# Altium integrated library Altium_IC.IntLib: 58 symbols (part 2 of 2)
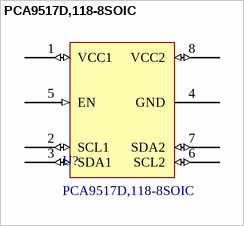
[diagram p22: symbol PCA9517D,118-8SOIC]

## PCA9517D,118-8SOIC
designator U?
IC REDRIVER I2C 1CH 400KHZ 8SOIC; Manufacturer: NXP USA Inc.; Active Read Current - Max: 5 mA; Number of Channels: 2; Capacitance - Input: 6 pF; Supply Voltage - Max: 5.5 V; Supply Voltage - Min: 2.7 V; Applications: I2C; Data Rate (Max): 400 kHz; Supplier 1 URL: https://www.mouser.com/ProductDetail/NXP-Semiconductors/PCA9517D118?qs=LOCUfHb8d9vRhua6vNQMbg%3D%3D; Supplier 2 URL: https://www.digikey.com/en/products/detail/nxp-usa-inc/PCA9517D-118/789917; Supplier 3 URL: N/A; Value: PCA9517D,118-8SOIC; Supplier 1: Mouser; Supplier 1 Part Number: 771-PCA9517D-T; Supplier 2: Digi-Key; Supplier 2 Part Number: 568-1828-2-ND; Supplier 3: thegioiic; Supplier 3 Part Number: N/A; Manufacturer Part Number: PCA9517D,118; Mount: SMD/SMT; Operating Temperature Max: + 85 C; Operating Temperature Min: - 40 C; Package / Case: 8SOIC; Packaging: Tape and Reel; ComponentLink1Description: Datasheet; ComponentLink1URL: https://www.nxp.com/docs/en/data-sheet/PCA9517.pdf
footprint PCA9517D,118-8SOIC (SOIC, 8-Leads, Body 4.90x3.90mm, Pitch 1.27mm, IPC Medium Density)
pins: 1 VCC1 (io), 2 SCL1 (io), 3 SDA1 (io), 4 GND (power), 5 EN (in), 6 SCL2 (io), 7 SDA2 (io), 8 VCC2 (io)


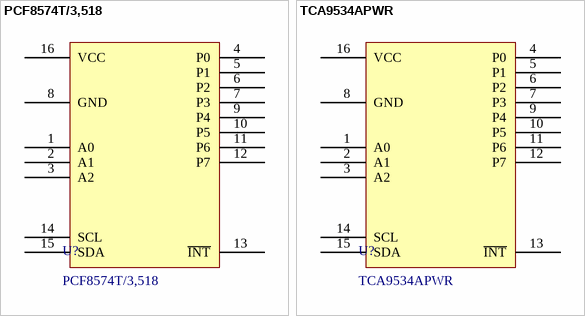
[diagram p14: symbols PCF8574T/3,518 to TCA9534APWR]

## PCF8574T/3,518
designator U?
Interface - I/O Expanders I/O EXPANDER I2C; Manufacturer: NXP; Supply Voltage - Max: 6 V; Supply Voltage - Min: 2.5 V; Configuration Registers: No; Interface Type: I2C, Serial; Interrupt Output: With Interrupt; Maximum Clock Frequency: 100 kHz; Number of I/Os: 8 I/O; ComponentLink1Description: Datasheet; ComponentLink1URL: https://www.mouser.vn/datasheet/2/302/PCF8574_PCF8574A-3139141.pdf; LCSC Part #: C7605; Manufacturer Part Number: PCF8574T/3,518; Mount: SMD/SMT; Operating Temperature Max: + 85 C; Operating Temperature Min: - 40 C; Package / Case: SOIC-16; Packaging: Tape and Reel; Supplier 1: Mouser; Supplier 1 Part Number: 771-PCF8574TD-T; Supplier 1 URL: https://www.mouser.vn/ProductDetail/NXP-Semiconductors/PCF8574T-3518?qs=LOCUfHb8d9srwcgHHpXqQw%3D%3D; Supplier 2: Digi-Key; Supplier 2 Part Number: N/A; Supplier 2 URL: N/A; Supplier 3: thegioiic; Supplier 3 Part Number: N/A; Supplier 3 URL: N/A; Value: PCF8574T/3,518
footprint PCF8574T/3,518 (SOIC, 16-Leads, Body 10.30x7.50mm, Pitch 1.27mm, IPC Medium Density)
pins: 1 A0, 2 A1, 3 A2, 4 P0, 5 P1, 6 P2, 7 P3, 8 GND, 9 P4, 10 P5, 11 P6, 12 P7, 13 ~{INT}, 14 SCL, 15 SDA, 16 VCC

## TCA9534APWR
designator U?
Interface - I/O Expanders Remote 8B I2C and Low-Pwr I/O Expander; Manufacturer: Texas Instruments; Supply Voltage - Max: 5.5 V; Supply Voltage - Min: 1.65 V; Configuration Registers: Yes; Interface Type: I2C, Serial, SMBus; Interrupt Output: With Interrupt; Maximum Clock Frequency: 400 kHz; Number of I/Os: 8 I/O; ComponentLink1Description: Datasheet; ComponentLink1URL: https://www.ti.com/general/docs/suppproductinfo.tsp?distId=26&gotoUrl=https://www.ti.com/lit/gpn/tca9534a; LCSC Part #: C206010; Manufacturer Part Number: TCA9534APWR; Mount: SMD/SMT; Operating Temperature Max: + 85 C; Operating Temperature Min: - 40 C; Package / Case: TSSOP-16; Packaging: Tape and Reel; Supplier 1: Mouser; Supplier 1 Part Number: 595-TCA9534APWR; Supplier 1 URL: https://www.mouser.vn/ProductDetail/Texas-Instruments/TCA9534APWR?qs=asCBFxFfL1RkU8XbvZBOXg%3D%3D; Supplier 2: Digi-Key; Supplier 2 Part Number: N/A; Supplier 2 URL: N/A; Supplier 3: thegioiic; Supplier 3 Part Number: N/A; Supplier 3 URL: N/A; Value: TCA9534APWR
footprint TCA9534APWR (TSOP, 16-Leads, Body 5.00x4.40mm, Pitch 0.65mm, IPC Medium Density)
pins: 1 A0, 2 A1, 3 A2, 4 P0, 5 P1, 6 P2, 7 P3, 8 GND, 9 P4, 10 P5, 11 P6, 12 P7, 13 ~{INT}, 14 SCL, 15 SDA, 16 VCC


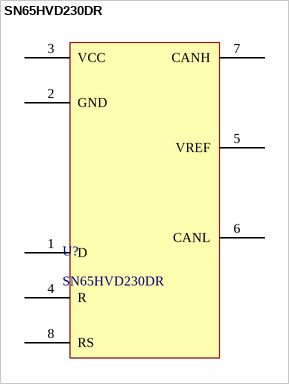
[diagram p15: symbol SN65HVD230DR]

## SN65HVD230DR
designator U?
CAN Interface IC STANDBY MODE; Manufacturer: Texas Instruments; Active Read Current - Max: Active; Data Rate: 1 Mb/s; Number of Drivers: 1; Supply Voltage - Max: 3.6 V; Supply Voltage - Min: 3.1 V; Supplier 1 URL: https://www.mouser.com/ProductDetail/Texas-Instruments/SN65HVD230DR?qs=QViXGNcIEAtifeQR3pYVUQ%3D%3D; Supplier 2 URL: https://www.digikey.com/en/products/detail/texas-instruments/SN65HVD230DR/404367; Supplier 3 URL: https://www.thegioiic.com/sn65hvd230dr-can-transceiver-8-soic; Value: SN65HVD230DR; Number of Receivers: 1; Supplier 1: Mouser; Supplier 1 Part Number: 595-SN65HVD230DR; Supplier 2: Digi-Key; Supplier 2 Part Number: 296-11654-2-ND; Supplier 3: thegioiic; Supplier 3 Part Number: SN65HVD230DR; Manufacturer Part Number: SN65HVD230DR; Mount: SMD/SMT; Operating Temperature Max: + 85 C; Operating Temperature Min: - 40 C; Package / Case: SOIC-8; ComponentLink1Description: Datasheet; ComponentLink1URL: https://www.ti.com/general/docs/suppproductinfo.tsp?distId=26&gotoUrl=https://www.ti.com/lit/gpn/sn65hvd230; Packaging: Tape and Reel
footprint SN65HVD230 (SOIC, 8-Leads, Body 4.91x3.85mm, Pitch 1.27mm, IPC Medium Density)
pins: 1 D, 2 GND, 3 VCC, 4 R, 5 VREF, 6 CANL, 7 CANH, 8 RS


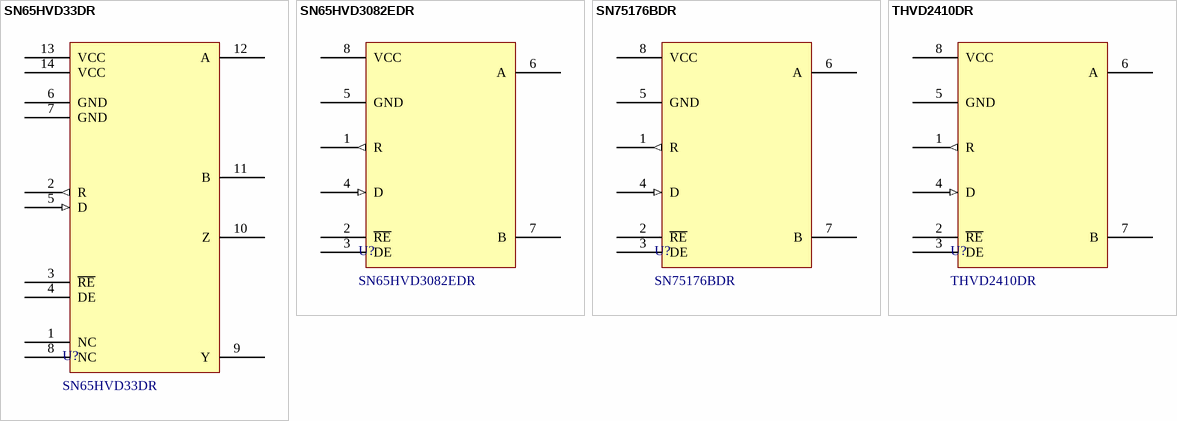
[diagram p16: symbols SN65HVD33DR to THVD2410DR]

## SN65HVD33DR
designator U?
Transceiver 23Mbps SOIC-14 RS-485 / RS-422 ICs ROHS; Manufacturer: Texas Instruments; Active Read Current - Max: Active; Data Rate: 26 Mb/s; Duplex: Full Duplex; Number of Drivers: 1; Operating Supply Current: 2 mA; Supply Voltage - Max: 3.6 V; Supply Voltage - Min: 3 V; Supplier 1 URL: https://www.mouser.com/ProductDetail/Texas-Instruments/SN65HVD33DR?qs=QViXGNcIEAuCd5VF4NkqaQ%3D%3D; Supplier 2 URL: https://www.digikey.com/en/products/detail/texas-instruments/sn65hvd1793dr/2047560; Supplier 3 URL: N/A; Value: SN65HVD33DR; Number of Receivers: 1; Manufacturer Part Number: SN65HVD33DR; Packaging: Tape and Reel; Supplier 1: Mouser; Supplier 1 Part Number: 595-SN65HVD33DR; Supplier 2: Digi-Key; Supplier 2 Part Number: 296-SN65HVD1793DRTR-ND; Supplier 3: thegioiic; Supplier 3 Part Number: N/A; Mount: SMD/SMT; Operating Temperature Max: + 85 C; Operating Temperature Min: - 40 C; Package / Case: SOIC-14; ComponentLink1Description: Datasheet; ComponentLink1URL: https://lcsc.com/datasheet/lcsc_datasheet_2410010301_TI-SN65HVD33DR_C114985.pdf; LCSC Part #: C114985
footprint SN65HVD33DR (SOIC, 14-Leads, Body 8.65x3.90mm, Pitch 1.27mm, IPC Medium Density)
pins: 1 NC, 2 R (out), 3 ~{RE}, 4 DE, 5 D (in), 6 GND, 7 GND, 8 NC, 9 Y, 10 Z, 11 B, 12 A, 13 VCC, 14 VCC

## SN65HVD3082EDR
designator U?
RS-485 Interface IC Low-Power RS-485 Transceiver; Manufacturer: Texas Instruments; Active Read Current - Max: Active; Data Rate: 200 kb/s; Duplex: Half Duplex; Number of Drivers: 1; Operating Supply Current: 0.3 mA; Supply Voltage - Max: 5.5 V; Supply Voltage - Min: 4.5 V; Supplier 1 URL: https://www.mouser.com/ProductDetail/Texas-Instruments/SN65HVD3082EDR?qs=QViXGNcIEAt4eVFlsrGcgQ%3D%3D; Supplier 2 URL: N/A; Supplier 3 URL: N/A; Value: SN65HVD3082EDR; Number of Receivers: 1; Manufacturer Part Number: SN65HVD3082EDR; Packaging: Tape and Reel; Supplier 1: Mouser; Supplier 1 Part Number: 595-SN65HVD3082EDR; Supplier 2: Digi-Key; Supplier 2 Part Number: N/A; Supplier 3: thegioiic; Supplier 3 Part Number: N/A; Mount: SMD/SMT; Operating Temperature Max: + 85 C; Operating Temperature Min: - 40 C; Package / Case: SOIC-8; ComponentLink1Description: Datasheet; ComponentLink1URL: https://www.ti.com/lit/ds/symlink/sn65hvd3082e.pdf?ts=1733221873211&ref_url=https%253A%252F%252Fwww.ti.com%252Fproduct%252FSN65HVD3082E%253Fqgpn%253Dsn65hvd3082e; LCSC Part #: C6912
footprint SN75176BDR (SOIC, 8-Leads, Body 4.90x3.90mm, Pitch 1.27mm, IPC Medium Density)
pins: 1 R (out), 2 ~{RE}, 3 DE, 4 D (in), 5 GND, 6 A, 7 B, 8 VCC

## SN75176BDR
designator U?
RS-422/RS-485 Interface IC Differential Bus; Manufacturer: Texas Instruments; Active Read Current - Max: Active; Data Rate: 10 Mb/s; Duplex: Half Duplex; Number of Drivers: 1; Operating Supply Current: 70 mA; Supply Voltage - Max: 5.25 V; Supply Voltage - Min: 4.75 V; Supplier 1 URL: https://www.mouser.com/ProductDetail/Texas-Instruments/SN75176BDR?qs=sbcp%2F4gpy09LI1PRfuQQ%252BA%3D%3D; Supplier 2 URL: N/A; Supplier 3 URL: N/A; Value: SN75176BDR; Number of Receivers: 1; Manufacturer Part Number: SN75176BDR; Packaging: Tape and Reel; Supplier 1: Mouser; Supplier 1 Part Number: 595-SN75176BDR; Supplier 2: Digi-Key; Supplier 2 Part Number: N/A; Supplier 3: thegioiic; Supplier 3 Part Number: N/A; Mount: SMD/SMT; Operating Temperature Max: + 85 C; Operating Temperature Min: - 40 C; Package / Case: SOIC-8; ComponentLink1Description: Datasheet; ComponentLink1URL: https://www.ti.com/general/docs/suppproductinfo.tsp?distId=26&gotoUrl=https://www.ti.com/lit/gpn/sn75176b; LCSC Part #: C7063
footprint SN75176BDR (SOIC, 8-Leads, Body 4.90x3.90mm, Pitch 1.27mm, IPC Medium Density)
pins: 1 R (out), 2 ~{RE}, 3 DE, 4 D (in), 5 GND, 6 A, 7 B, 8 VCC

## THVD2410DR
designator U?
RS-485 Interface IC +/-70-V fault-protected 3.3-V to 5-V RS-485 transceiver with IEC ESD 8-SOIC -40 to 125; Manufacturer: Texas Instruments; Active Read Current - Max: Active; Data Rate: 500 kb/s; Duplex: Half Duplex; Number of Drivers: 1; Operating Supply Current: 3.5 mA; Supply Voltage - Max: 5.5 V; Supply Voltage - Min: 3 V; Supplier 1 URL: https://www.mouser.com/ProductDetail/Texas-Instruments/THVD2410DR?qs=sGAEpiMZZMutXGli8Ay4kAoIdUySgvbHWvY8ceVHoHw%3D; Supplier 2 URL: N/A; Supplier 3 URL: N/A; Value: THVD2410DR; Number of Receivers: 1; Manufacturer Part Number: THVD2410DR; Packaging: Tape and Reel; Supplier 1: Mouser; Supplier 1 Part Number: 595-THVD2410DR; Supplier 2: Digi-Key; Supplier 2 Part Number: N/A; Supplier 3: thegioiic; Supplier 3 Part Number: N/A; Mount: SMD/SMT; Operating Temperature Max: + 125 C; Operating Temperature Min: - 40 C; Package / Case: SOIC-8; ComponentLink1Description: Datasheet; ComponentLink1URL: https://www.ti.com/lit/ds/symlink/thvd2410.pdf?ts=1733287083739&ref_url=https%253A%252F%252Fwww.mouser.com%252F; LCSC Part #: C1849398
footprint SN75176BDR (SOIC, 8-Leads, Body 4.90x3.90mm, Pitch 1.27mm, IPC Medium Density)
pins: 1 R (out), 2 ~{RE}, 3 DE, 4 D (in), 5 GND, 6 A, 7 B, 8 VCC


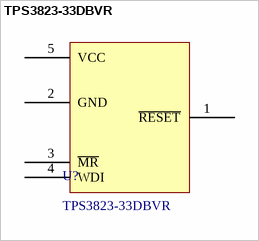
[diagram p17: symbol TPS3823-33DBVR]

## TPS3823-33DBVR
designator U?
Supervisory Circuits 2.93V Monitor; Manufacturer: Texas Instruments; Supply Voltage - Max: 5.5 V; Supply Voltage - Min: 1.1 V; Accuracy: 2.4%; Battery Backup Switching: No Backup; Chip Enable Signals: No Chip Enable; Number of Inputs Monitored: 1 Input; Operating Supply Current: 15 uA; Output Current: 10 mA; Output Type: Active Low, Push-Pull; Overvoltage Threshold: 3 V; Pd - Power Dissipation: 437 mW; Power Fail Detection: No; Reset Delay Time: 200 ms; Watchdog Timers: Watchdog; ComponentLink1Description: Datasheet; ComponentLink1URL: https://www.ti.com/lit/gpn/tps3823; LCSC Part #: C7719; Manufacturer Part Number: TPS3823-33DBVR; Mount: SMD/SMT; Operating Temperature Max: + 85 C; Operating Temperature Min: - 40 C; Package / Case: SOT-23-5; Packaging: Tape and Reel; Supplier 1: Mouser; Supplier 1 Part Number: 595-TPS3823-33DBVR; Supplier 1 URL: https://www.mouser.com/ProductDetail/Texas-Instruments/TPS3823-33DBVR?qs=mTHRaKC2c7OFNY0AQKcsRQ%3D%3D; Supplier 2: Digi-Key; Supplier 2 Part Number: N/A; Supplier 2 URL: N/A; Supplier 3: thegioiic; Supplier 3 Part Number: N/A; Supplier 3 URL: N/A; Value: TPS3823-33DBVR; Manual Reset: Manual Reset; Threshold Voltage: 2.93 V; Undervoltage Threshold: 2.93 V
footprint TPS382x-SOT-23-5 (SOT23, 5-Leads, Body 2.90x2.80mm, Pitch 0.95mm, IPC Medium Density)
pins: 1 ~{RESET}, 2 GND, 3 ~{MR}, 4 WDI, 5 VCC


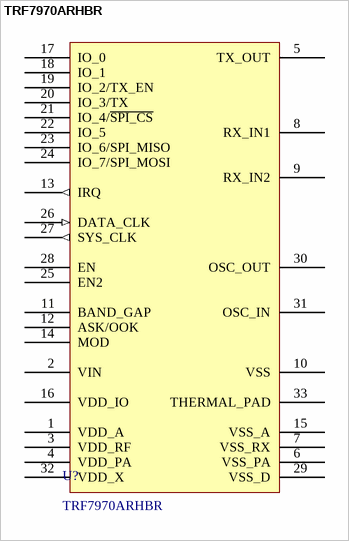
[diagram p18: symbol TRF7970ARHBR]

## TRF7970ARHBR
designator U?
FeliCa,ISO 14443A,ISO 14443B,ISO 15693,ISO 18000-3,ISO 21481,MIFARE,NFC SPI VQFN-32-EP(5x5) RFID, RF Access, Monitoring ICs RoHS; Manufacturer: Texas Instruments; Interface Type: Parrallel, UART, SPI; Operating Frequency: 13.56 MHz; Supply Voltage - Max: 5.5V; Supply Voltage - Min: 2.7 V; ComponentLink1Description: Datasheet; ComponentLink1URL: https://www.ti.com/lit/ds/symlink/trf7970a.pdf?ts=1762763014279&ref_url=https%253A%252F%252Fwww.ti.com%252Fproduct%252FTRF7970A; LCSC Part #: C117004; Manufacturer Part Number: TRF7970ARHBR; Mount: SMD/SMT; Operating Temperature Max: + 110 C; Operating Temperature Min: - 40 C; Package / Case: VQFN-32; Packaging: Tape and Reel; Supplier 1: Mouser; Supplier 1 Part Number: 595-TRF7970ARHBR; Supplier 1 URL: https://www.mouser.vn/ProductDetail/Texas-Instruments/TRF7970ARHBR?qs=4dGAZp5OGt8Af9zmAaD4OQ%3D%3D; Supplier 2: Digi-Key; Supplier 2 Part Number: 296-29355-2-ND; Supplier 2 URL: https://www.digikey.com/en/products/detail/texas-instruments/trf7970arhbr/2728129; Supplier 3: thegioiic; Supplier 3 Part Number: N/A; Supplier 3 URL: N/A; Type: NFC/RFID Tags & Transponders; Value: TRF7970ARHBR
footprint TRF7970ARHBR (QFN, 32-Leads, Body 5.00x5.00mm, Pitch 0.50mm, Thermal Pad 3.50x3.50mm, IPC Medium Density)
pins: 1 VDD_A, 2 VIN, 3 VDD_RF, 4 VDD_PA, 5 TX_OUT, 6 VSS_PA, 7 VSS_RX, 8 RX_IN1, 9 RX_IN2, 10 VSS, 11 BAND_GAP, 12 ASK/OOK, 13 IRQ (out), 14 MOD, 15 VSS_A, 16 VDD_IO, 17 IO_0, 18 IO_1, 19 IO_2/TX_EN, 20 IO_3/TX, 21 IO_4/~{SPI_CS}, 22 IO_5, 23 IO_6/SPI_MISO, 24 IO_7/SPI_MOSI, 25 EN2, 26 DATA_CLK (in), 27 SYS_CLK (out), 28 EN, 29 VSS_D, 30 OSC_OUT, 31 OSC_IN, 32 VDD_X, 33 THERMAL_PAD


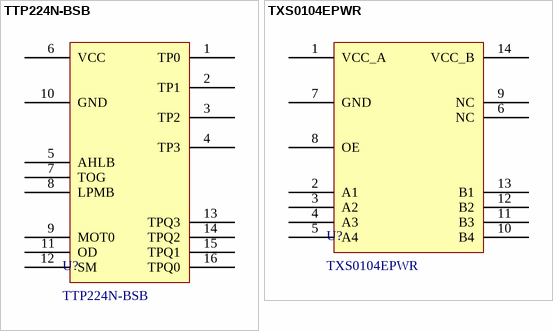
[diagram p19: symbols TTP224N-BSB to TXS0104EPWR]

## TTP224N-BSB
designator U?
4 KEY TOUCH PAD DETECTOR IC; Manufacturer: TONTEK; Active Read Current - Max: Active; Supply Voltage - Max: 5.5 V; Supply Voltage - Min: 2.7 V; Supplier 1: Mouser; Supplier 1 Part Number: N/A; Supplier 1 URL: N/A; Supplier 2: Digi-Key; Supplier 2 Part Number: N/A; Supplier 2 URL: N/A; Supplier 3: thegioiic; Supplier 3 Part Number: TTP224N-BSB; Supplier 3 URL: https://www.thegioiic.com/ttp224n-bsb; Value: TTP224N-BSB; Manufacturer Part Number: TTP224N-BSB; Mount: SMD/SMT; Operating Temperature Max: + 85 C; Operating Temperature Min: - 40 C; Packaging: Tape and Reel; ComponentLink1Description: Datasheet; ComponentLink1URL: N/A
footprint TouchSensorIC_16Pin (SOP, 16-Leads, Body 4.90x3.90mm, Pitch 0.64mm, IPC Medium Density)
pins: 1 TP0, 2 TP1, 3 TP2, 4 TP3, 5 AHLB, 6 VCC, 7 TOG, 8 LPMB, 9 MOT0, 10 GND, 11 OD, 12 SM, 13 TPQ3, 14 TPQ2, 15 TPQ1, 16 TPQ0

## TXS0104EPWR
designator U?
Translation - Voltage Levels 4B Bidrctnl Vltg Lvl Trnsltr Opn Dran App; Manufacturer: Texas Instruments; Data Rate: 50 Mb/s; High Level Output Current: 24 mA; Propagation Delay Time: 260 ns; Supply Voltage - Max: 5.5 V; Supply Voltage - Min: 1.65 V; Active Read Current - Max: Active; Low Level Output Current: 24 mA; Manufacturer Part Number: TXS0104EPWR; Mount: SMD/SMT; Operating Temperature Max: + 85 C; Operating Temperature Min: - 40 C; Package / Case: TSSOP-14; Packaging: Tape and Reel; Supplier 1: Mouser; Supplier 1 Part Number: 595-TXS0104EPWR; Supplier 1 URL: https://www.mouser.vn/ProductDetail/Texas-Instruments/TXS0104EPWR?qs=7kv20MEVUlglsv2MH6ZndA%3D%3D; Supplier 2: Digi-Key; Supplier 2 Part Number: N/A; Supplier 2 URL: N/A; Supplier 3: thegioiic; Supplier 3 Part Number: N/A; Supplier 3 URL: N/A; Value: TXS0104EPWR; ComponentLink1Description: Datasheet; ComponentLink1URL: https://www.ti.com/general/docs/suppproductinfo.tsp?distId=26&gotoUrl=https://www.ti.com/lit/gpn/txs0104e
footprint TXS0104EPWR (Footprint not found)
pins: 1 VCC_A, 2 A1, 3 A2, 4 A3, 5 A4, 6 NC, 7 GND, 8 OE, 9 NC, 10 B4, 11 B3, 12 B2, 13 B1, 14 VCC_B


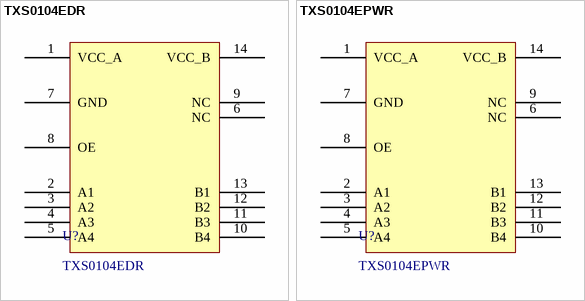
[diagram p20: symbols TXS0104EDR to TXS0104EPWR]

## TXS0104EDR
designator U?
Translation - Voltage Levels 4B Bidrctnl Vltg Lvl Trnsltr Opn Dran App; Manufacturer: Texas Instruments; Data Rate: 50 Mb/s; High Level Output Current: 24 mA; Propagation Delay Time: 260 ns; Supply Voltage - Max: 5.5 V; Supply Voltage - Min: 1.65 V; Low Level Output Current: 24 mA; Manufacturer Part Number: TXS0104EDR; Mount: SMD/SMT; Operating Temperature Max: + 85 C; Operating Temperature Min: - 40 C; Package / Case: SOIC-14; Packaging: Tape and Reel; Supplier 1: Mouser; Supplier 1 Part Number: 595-TXS0104EDR; Supplier 1 URL: https://www.mouser.vn/ProductDetail/Texas-Instruments/TXS0104EDR?qs=7kv20MEVUljeQYQBZTsYxg%3D%3D; Supplier 2: Digi-Key; Supplier 2 Part Number: N/A; Supplier 2 URL: N/A; Supplier 3: thegioiic; Supplier 3 Part Number: N/A; Supplier 3 URL: N/A; Value: TXS0104EDR; ComponentLink1Description: Datasheet; ComponentLink1URL: https://www.ti.com/general/docs/suppproductinfo.tsp?distId=26&gotoUrl=https://www.ti.com/lit/gpn/txs0104e; LCSC Part #: C79342
footprint TXS0104EDR (SOP, 14-Leads, Body 8.65x3.90mm, Pitch 1.27mm, IPC Medium Density)
pins: 1 VCC_A, 2 A1, 3 A2, 4 A3, 5 A4, 6 NC, 7 GND, 8 OE, 9 NC, 10 B4, 11 B3, 12 B2, 13 B1, 14 VCC_B

## TXS0104EPWR
designator U?
Translation - Voltage Levels 4B Bidrctnl Vltg Lvl Trnsltr Opn Dran App; Manufacturer: Texas Instruments; Data Rate: 50 Mb/s; High Level Output Current: 24 mA; Propagation Delay Time: 260 ns; Supply Voltage - Max: 5.5 V; Supply Voltage - Min: 1.65 V; Low Level Output Current: 24 mA; Manufacturer Part Number: TXS0104EPWR; Mount: SMD/SMT; Operating Temperature Max: + 85 C; Operating Temperature Min: - 40 C; Package / Case: TSSOP-14; Packaging: Tape and Reel; Supplier 1: Mouser; Supplier 1 Part Number: 595-TXS0104EPWR; Supplier 1 URL: https://www.mouser.vn/ProductDetail/Texas-Instruments/TXS0104EPWR?qs=7kv20MEVUlglsv2MH6ZndA%3D%3D; Supplier 2: Digi-Key; Supplier 2 Part Number: N/A; Supplier 2 URL: N/A; Supplier 3: thegioiic; Supplier 3 Part Number: N/A; Supplier 3 URL: N/A; Value: TXS0104EPWR; ComponentLink1Description: Datasheet; ComponentLink1URL: https://www.ti.com/general/docs/suppproductinfo.tsp?distId=26&gotoUrl=https://www.ti.com/lit/gpn/txs0104e; LCSC Part #: C44955
footprint TXS0104EPWR (TSOP, 14-Leads, Body 5.00x4.40mm, Pitch 0.65mm, IPC Medium Density)
pins: 1 VCC_A, 2 A1, 3 A2, 4 A3, 5 A4, 6 NC, 7 GND, 8 OE, 9 NC, 10 B4, 11 B3, 12 B2, 13 B1, 14 VCC_B


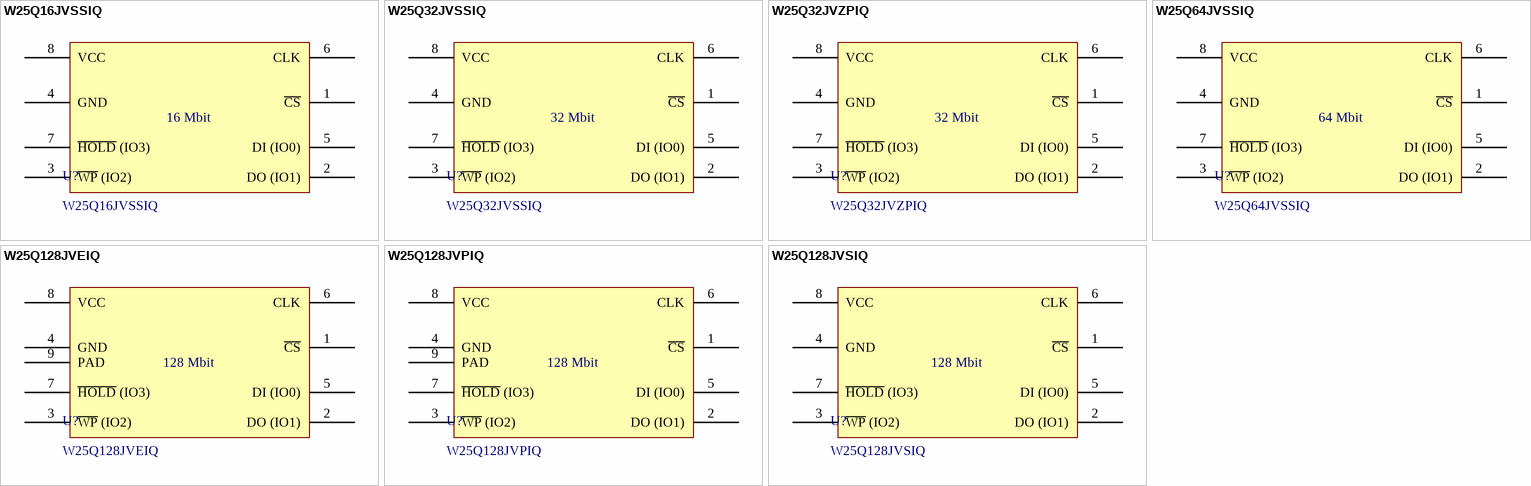
[diagram p21: symbols W25Q16JVSSIQ to W25Q128JVSIQ]

## W25Q16JVSSIQ
designator U?
16Mbit 2.7V~3.6V 133MHz SPI SOIC-8-EP(5x6) Memory (ICs) RoHS; Manufacturer: Winbond Electronics; Active Read Current - Max: 25 mA; Interface Type: SPI - Quad I/O, QPI; Data Bus Width: 8 bit; Supply Voltage - Max: 3.6 V; Supply Voltage - Min: 2.7 V; Organization: 2 M x 8; Memory Size: 16 Mbit; Maximum Clock Frequency: 133 MHz; Supplier 1 URL: https://www.mouser.vn/ProductDetail/Winbond/W25Q16JVSSIQ?qs=qSfuJ%252Bfl%2Fd46L%2F1QrQC%2Fog%3D%3D; Supplier 2 URL: https://www.digikey.com/en/products/detail/winbond-electronics/w25q16jvssiq/6193769; Supplier 3 URL: N/A; Value: W25Q16JVSSIQ; Supplier 1: Mouser; Supplier 1 Part Number: 454-W25Q16JVSSIQ; Supplier 2: Digi-Key; Supplier 2 Part Number: W25Q16JVSSIQ-ND; Supplier 3: thegioiic; Supplier 3 Part Number: N/A; Manufacturer Part Number: W25Q16JVSSIQ; Mount: SMD/SMT; Operating Temperature Max: + 85 C; Operating Temperature Min: - 40 C; Package / Case: SOIC-8; Packaging: Tape and Reel; ComponentLink1Description: Datasheet; ComponentLink1URL: https://www.lcsc.com/datasheet/C131025.pdf; LCSC Part #: C131025
footprint W25QXXJVSIQ-SOIC-8 (SOIC, 8-Leads, Body 5.28x5.28mm, Pitch 1.27mm, IPC Medium Density)
pins: 1 ~{CS}, 2 DO (IO1), 3 ~{WP} (IO2), 4 GND (power), 5 DI (IO0), 6 CLK, 7 ~{HOLD} (IO3), 8 VCC (power)

## W25Q32JVSSIQ
designator U?
32Mbit 2.7V~3.6V 133MHz SPI SOIC-8-EP(5x6) Memory (ICs) RoHS; Manufacturer: Winbond Electronics; Active Read Current - Max: 25 mA; Interface Type: SPI - Quad I/O, QPI; Data Bus Width: 8 bit; Supply Voltage - Max: 3.6 V; Supply Voltage - Min: 2.7 V; Organization: 4 M x 8; Memory Size: 32 Mbit; Maximum Clock Frequency: 133 MHz; Supplier 1 URL: https://www.mouser.vn/ProductDetail/Winbond/W25Q32JVSSIQ?qs=qSfuJ%252Bfl%2Fd4PGZSN0WxfCA%3D%3D; Supplier 2 URL: https://www.digikey.com/en/products/detail/winbond-electronics/w25q32jvssiq/5803981; Supplier 3 URL: N/A; Value: W25Q32JVSSIQ; Supplier 1: Mouser; Supplier 1 Part Number: 454-W25Q32JVSSIQTR; Supplier 2: Digi-Key; Supplier 2 Part Number: W25Q32JVSSIQ-ND; Supplier 3: thegioiic; Supplier 3 Part Number: N/A; Manufacturer Part Number: W25Q32JVSSIQ; Mount: SMD/SMT; Operating Temperature Max: + 85 C; Operating Temperature Min: - 40 C; Package / Case: SOIC-8; Packaging: Tape and Reel; ComponentLink1Description: Datasheet; ComponentLink1URL: https://www.lcsc.com/datasheet/C179173.pdf; LCSC Part #: C179173
footprint W25QXXJVSIQ-SOIC-8 (SOIC, 8-Leads, Body 5.28x5.28mm, Pitch 1.27mm, IPC Medium Density)
pins: 1 ~{CS}, 2 DO (IO1), 3 ~{WP} (IO2), 4 GND (power), 5 DI (IO0), 6 CLK, 7 ~{HOLD} (IO3), 8 VCC (power)

## W25Q32JVZPIQ
designator U?
32Mbit 2.7V~3.6V 133MHz SPI WSON-8-EP(5x6) Memory (ICs) RoHS; Manufacturer: Winbond Electronics; Active Read Current - Max: 25 mA; Interface Type: SPI - Quad I/O, QPI; Data Bus Width: 8 bit; Supply Voltage - Max: 3.6 V; Supply Voltage - Min: 2.7 V; Organization: 4 M x 8; Memory Size: 32 Mbit; Maximum Clock Frequency: 133 MHz; Supplier 1 URL: https://www.mouser.vn/ProductDetail/Winbond/W25Q32JVZPIQ?qs=qSfuJ%252Bfl%2Fd5Ca0jgzBVqQA%3D%3D; Supplier 2 URL: https://www.digikey.com/en/products/detail/winbond-electronics/w25q32jvzpiq/6167525; Supplier 3 URL: N/A; Value: W25Q32JVZPIQ; Supplier 1: Mouser; Supplier 1 Part Number: 454-W25Q32JVZPIQ; Supplier 2: Digi-Key; Supplier 2 Part Number: W25Q32JVZPIQ-ND; Supplier 3: thegioiic; Supplier 3 Part Number: N/A; Manufacturer Part Number: W25Q32JVZPIQ; Mount: SMD/SMT; Operating Temperature Max: + 85 C; Operating Temperature Min: - 40 C; Package / Case: WSON-8; Packaging: Tape and Reel; ComponentLink1Description: Datasheet; ComponentLink1URL: https://www.lcsc.com/datasheet/C571260.pdf; LCSC Part #: C571260
footprint W25QXXJVPIQ-WSON-8 (SON, 8-Leads, Body 6.00x8.00mm, Pitch 1.27mm, Thermal Pad 4.30x3.40mm, IPC Medium Density)
pins: 1 ~{CS}, 2 DO (IO1), 3 ~{WP} (IO2), 4 GND (power), 5 DI (IO0), 6 CLK, 7 ~{HOLD} (IO3), 8 VCC (power)

## W25Q64JVSSIQ
designator U?
64Mbit 2.7V~3.6V 133MHz SPI SOIC-8-EP(5x6) Memory (ICs) RoHS; Manufacturer: Winbond Electronics; Active Read Current - Max: 25 mA; Interface Type: SPI - Quad I/O, QPI; Data Bus Width: 8 bit; Supply Voltage - Max: 3.6 V; Supply Voltage - Min: 2.7 V; Organization: 8 M x 8; Memory Size: 64 Mbit; Maximum Clock Frequency: 133 MHz; Supplier 1 URL: https://www.mouser.vn/ProductDetail/Winbond/W25Q64JVSSIQ?qs=qSfuJ%252Bfl%2Fd4DecxlHDmB8w%3D%3D; Supplier 2 URL: https://www.digikey.com/en/products/detail/winbond-electronics/w25q64jvssiq/5803992; Supplier 3 URL: N/A; Value: W25Q64JVSSIQ; Supplier 1: Mouser; Supplier 1 Part Number: 454-W25Q64JVSIQ; Supplier 2: Digi-Key; Supplier 2 Part Number: W25Q64JVSSIQ-ND; Supplier 3: thegioiic; Supplier 3 Part Number: N/A; Manufacturer Part Number: W25Q64JVSSIQ; Mount: SMD/SMT; Operating Temperature Max: + 85 C; Operating Temperature Min: - 40 C; Package / Case: SOIC-8; Packaging: Tape and Reel; ComponentLink1Description: Datasheet; ComponentLink1URL: https://www.lcsc.com/datasheet/C179171.pdf; LCSC Part #: C179171
footprint W25QXXJVSIQ-SOIC-8 (SOIC, 8-Leads, Body 5.28x5.28mm, Pitch 1.27mm, IPC Medium Density)
pins: 1 ~{CS}, 2 DO (IO1), 3 ~{WP} (IO2), 4 GND (power), 5 DI (IO0), 6 CLK, 7 ~{HOLD} (IO3), 8 VCC (power)

## W25Q128JVEIQ
designator U?
128Mbit 2.7V~3.6V 133MHz SPI WSON-8-EP(6x8) Memory (ICs) RoHS; Manufacturer: Winbond Electronics; Active Read Current - Max: 25 mA; Interface Type: SPI - Quad I/O, QPI; Data Bus Width: 8 bit; Supply Voltage - Max: 3.6 V; Supply Voltage - Min: 2.7 V; Organization: 16 M x 8; Memory Size: 128 Mbit; Maximum Clock Frequency: 133 MHz; Supplier 1 URL: https://www.mouser.com/ProductDetail/Winbond/W25Q128JVEIQ?qs=qSfuJ%252Bfl%2Fd667JrLNi7hwg%3D%3D; Supplier 2 URL: https://www.digikey.com/en/products/detail/winbond-electronics/w25q128jveiq/6819667; Supplier 3 URL: N/A; Value: W25Q128JVEIQ; Supplier 1: Mouser; Supplier 1 Part Number: 454-W25Q128JVEIQ; Supplier 2: Digi-Key; Supplier 2 Part Number: 256-W25Q128JVEIQ-TUBE-ND; Supplier 3: thegioiic; Supplier 3 Part Number: N/A; Manufacturer Part Number: W25Q128JVEIQ; Mount: SMD/SMT; Operating Temperature Max: + 85 C; Operating Temperature Min: - 40 C; Package / Case: WSON-8 (6x8); Packaging: Tape and Reel; ComponentLink1Description: Datasheet; ComponentLink1URL: https://www.lcsc.com/datasheet/C2456297.pdf; LCSC Part #: C2456297
footprint W25QXXJVEIQ-WSON-8 (SON, 8-Leads, Body 6.00x8.00mm, Pitch 1.27mm, Thermal Pad 4.30x3.40mm, IPC Medium Density)
pins: 1 ~{CS}, 2 DO (IO1), 3 ~{WP} (IO2), 4 GND (power), 5 DI (IO0), 6 CLK, 7 ~{HOLD} (IO3), 8 VCC (power), 9 PAD (power)

## W25Q128JVPIQ
designator U?
128Mbit 2.7V~3.6V 133MHz SPI WSON-8-EP(5x6) Memory (ICs) RoHS; Manufacturer: Winbond Electronics; Active Read Current - Max: 25 mA; Interface Type: SPI - Quad I/O, QPI; Data Bus Width: 8 bit; Supply Voltage - Max: 3.6 V; Supply Voltage - Min: 2.7 V; Organization: 16 M x 8; Memory Size: 128 Mbit; Maximum Clock Frequency: 133 MHz; Supplier 1 URL: https://www.mouser.vn/ProductDetail/Winbond/W25Q128JVPIQ?qs=qSfuJ%252Bfl%2Fd676hAD%252B1JSfw%3D%3D; Supplier 2 URL: https://www.digikey.com/en/products/detail/winbond-electronics/w25q128jvpiq/6819668; Supplier 3 URL: N/A; Value: W25Q128JVPIQ; Supplier 1: Mouser; Supplier 1 Part Number: 454-W25Q128JVPIQ; Supplier 2: Digi-Key; Supplier 2 Part Number: W25Q128JVPIQ-ND; Supplier 3: thegioiic; Supplier 3 Part Number: N/A; Manufacturer Part Number: W25Q128JVPIQ; Mount: SMD/SMT; Operating Temperature Max: + 85 C; Operating Temperature Min: - 40 C; Package / Case: WSON-8 (5x6); Packaging: Tape and Reel; ComponentLink1Description: Datasheet; ComponentLink1URL: https://www.lcsc.com/datasheet/C190862.pdf; LCSC Part #: C190862
footprint W25QXXJVPIQ-WSON-8 (SON, 8-Leads, Body 5.00x6.00mm, Pitch 1.27mm, Thermal Pad 4.30x3.40mm, IPC Medium Density)
pins: 1 ~{CS}, 2 DO (IO1), 3 ~{WP} (IO2), 4 GND (power), 5 DI (IO0), 6 CLK, 7 ~{HOLD} (IO3), 8 VCC (power), 9 PAD (power)

## W25Q128JVSIQ
designator U?
128Mbit 2.7V~3.6V 133MHz SPI SOIC-8-EP(5x6) Memory (ICs) RoHS; Manufacturer: Winbond Electronics; Active Read Current - Max: 25 mA; Interface Type: SPI - Quad I/O, QPI; Data Bus Width: 8 bit; Supply Voltage - Max: 3.6 V; Supply Voltage - Min: 2.7 V; Organization: 16 M x 8; Memory Size: 128 Mbit; Maximum Clock Frequency: 133 MHz; Supplier 1 URL: https://www.mouser.vn/ProductDetail/Winbond/W25Q128JVSIQ?qs=qSfuJ%252Bfl%2Fd6tLXvPR4fl9w%3D%3D; Supplier 2 URL: https://www.digikey.com/en/products/detail/winbond-electronics/w25q128jvsiq/5803943; Supplier 3 URL: N/A; Value: W25Q128JVSIQ; Supplier 1: Mouser; Supplier 1 Part Number: 454-W25Q128JVSIQ; Supplier 2: Digi-Key; Supplier 2 Part Number: W25Q128JVSIQ-ND; Supplier 3: thegioiic; Supplier 3 Part Number: N/A; Manufacturer Part Number: W25Q128JVSIQ; Mount: SMD/SMT; Operating Temperature Max: + 85 C; Operating Temperature Min: - 40 C; Package / Case: SOIC-8; Packaging: Tape and Reel; ComponentLink1Description: Datasheet; ComponentLink1URL: https://www.lcsc.com/datasheet/C97521.pdf; LCSC Part #: C97521
footprint W25QXXJVSIQ-SOIC-8 (SOIC, 8-Leads, Body 5.28x5.28mm, Pitch 1.27mm, IPC Medium Density)
pins: 1 ~{CS}, 2 DO (IO1), 3 ~{WP} (IO2), 4 GND (power), 5 DI (IO0), 6 CLK, 7 ~{HOLD} (IO3), 8 VCC (power)